# EAGLE library part DF57-4P-12V (library lib_stankus)
Hirose DF57-4P-1.2V Farnell 1874402, 1874403, 1826919
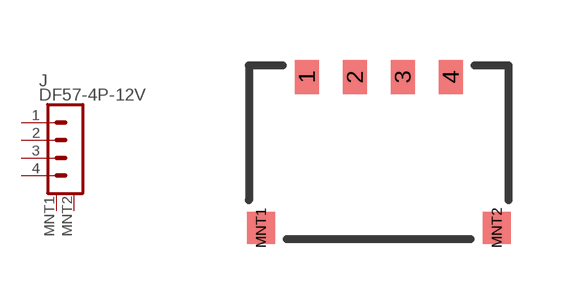
[diagram p96: symbol with the pads of DF57-4P-12V; footprint DF57-4P-12V]

Designator prefix J

## DF57-4P-12V  [DF57-4P-12V]
1  1  pas
2  2  pas
3  3  pas
4  4  pas
MNT1  MNT1  pas
MNT2  MNT2  pas

## Footprint DF57-4P-12V (pad centres in mm)
DF57-4P-1.2V
smd 0.6 x 0.85: 1 -1.8,1.887; 2 -0.6,1.887; 3 0.6,1.887; 4 1.8,1.887
smd 0.7 x 0.8: MNT1 -2.95,-1.887; MNT2 2.95,-1.887